# Altium footprint library 英雄云台V1.施佳良.PcbLib: 30 footprints (part 1 of 2)
Each footprint in its own frame and in the unit in brackets; x right, y up, seen from the top. Pads: shape width x height; smd on the part's side, far side on the other; paste and mask are expansions set on the pad; w line width, h text height; cw(c..) or ccw(c..) is an arc to the next point about the centre after c.
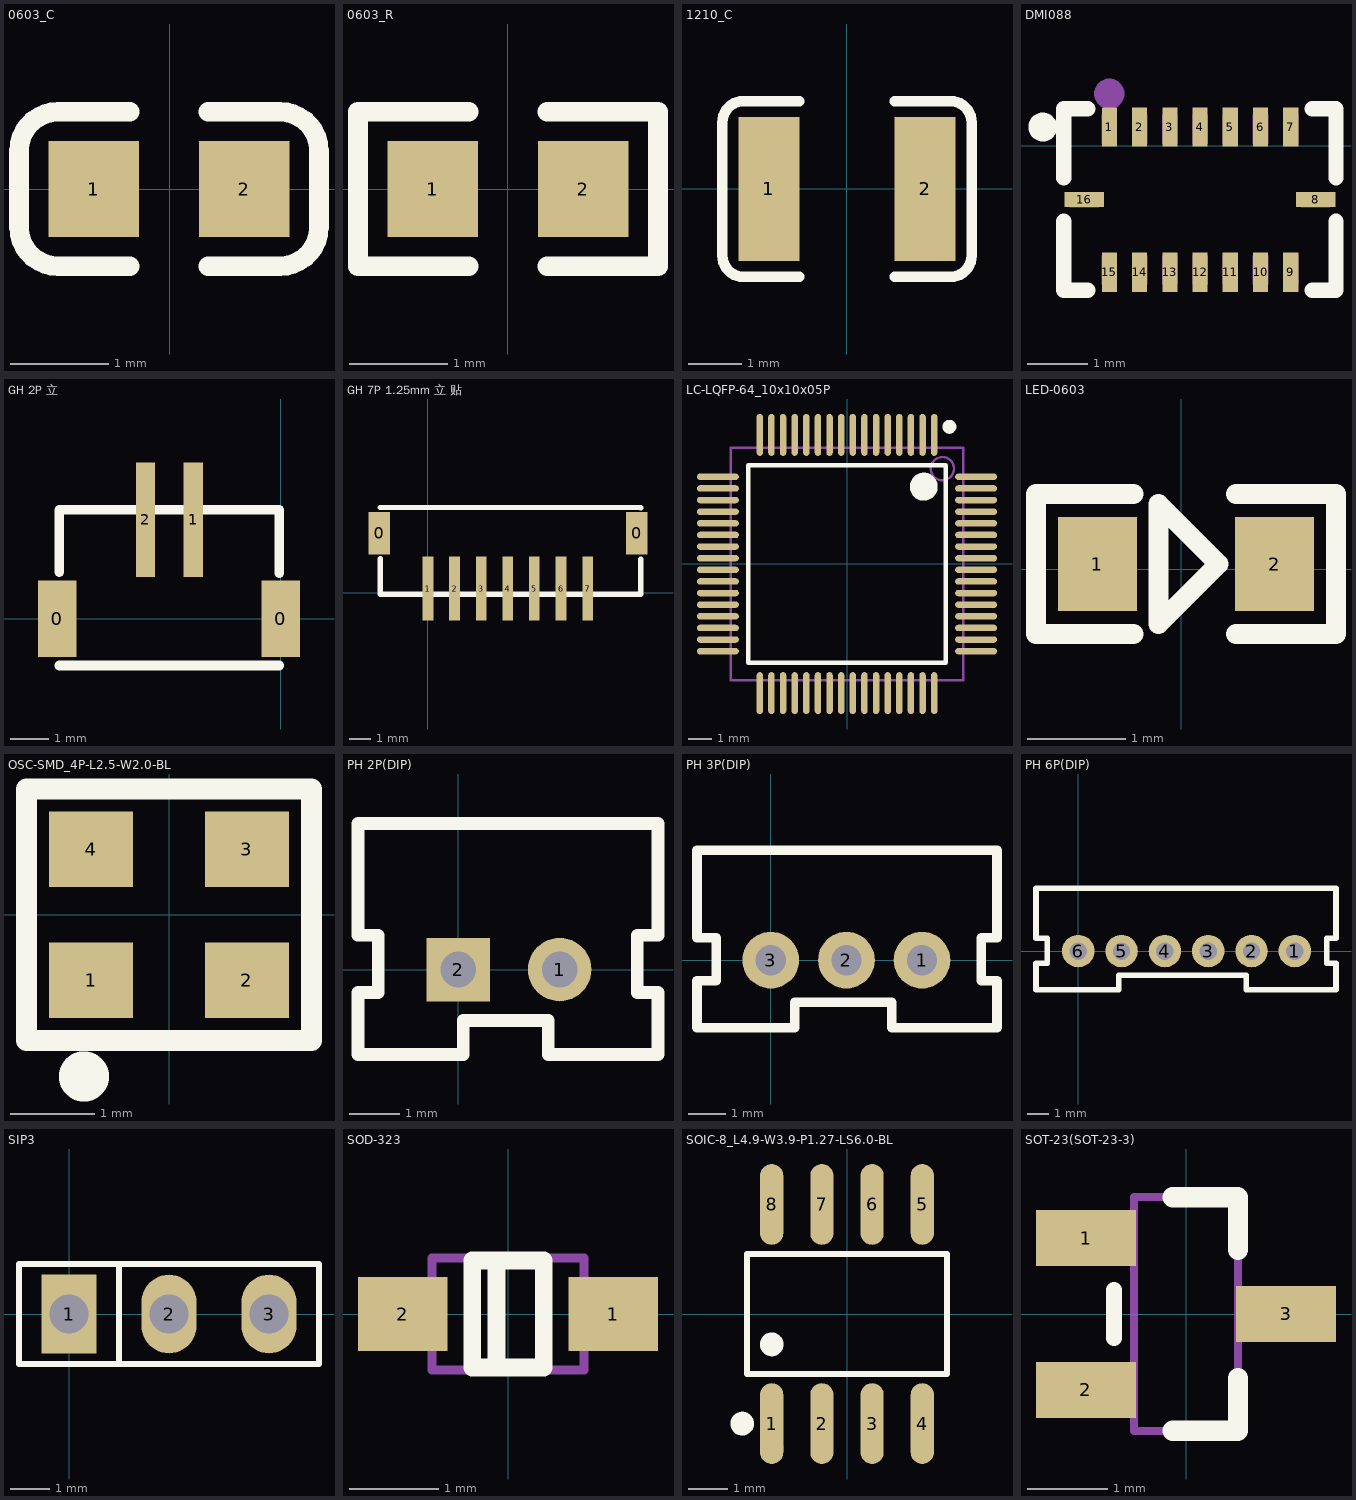
[diagram p0: the footprints below, top view; thin cyan lines are the x and y axes]

## 0603_C [mm]
pads (2):
  rect 0.93x0.98 smd: 1(-0.778,0) 2(0.762,0)
Top Overlay:
  lines w0.2: -0.408,-0.79 -1.143,-0.79 cw(c-1.143,-0.39) -1.543,-0.39 -1.543,0.39 cw(c-1.143,0.39) -1.143,0.79 -0.408,0.79 ; 0.392,-0.79 1.127,-0.79 ccw(c1.127,-0.39) 1.527,-0.39 1.527,0.39 ccw(c1.127,0.39) 1.127,0.79 0.392,0.79
3D body "User Library-0603 SMD Capacitor.STEP": height 0.3, standoff 0, extent -0.808,-0.4 0.792,0.4

## 0603_R [mm]
height 0.6
pads (2):
  rect 0.93x0.98 smd: 1(-0.77,0) 2(0.77,0)
Top Overlay:
  lines w0.2: -0.4,-0.79 -1.535,-0.79 -1.535,0.79 -0.4,0.79 ; 0.4,-0.79 1.535,-0.79 1.535,0.79 0.4,0.79
3D body "User Library-RES_1609-0603.STEP": height 0.56, standoff 0, extent -0.85,-0.4 0.85,0.4

## 1210_C [mm]
pads (2):
  rect 1.16x2.72 smd: 1(-1.475,0) 2(1.475,0)
Top Overlay:
  lines w0.2: -0.9,-1.66 -1.955,-1.66 cw(c-1.955,-1.26) -2.355,-1.26 -2.355,1.26 cw(c-1.955,1.26) -1.955,1.66 -0.9,1.66 ; 0.9,-1.66 1.955,-1.66 ccw(c1.955,-1.26) 2.355,-1.26 2.355,1.26 ccw(c1.955,1.26) 1.955,1.66 0.9,1.66
3D body "User Library-cap_1210_lowprofile.step": height 1.3, standoff 0, extent -1.6,-1.25 1.6,1.25

## DMI088 [mm]
pads (16):
  rect 0.25x0.65 smd: 1(5.36,0.311) 2(5.86,0.311) 3(6.36,0.311) 4(6.86,0.311) 5(7.36,0.311) 6(7.86,0.311) 7(8.36,0.311) 9(8.36,-2.089) 10(7.86,-2.089) 11(7.36,-2.089) 12(6.86,-2.089) 13(6.36,-2.089) 14(5.86,-2.089) 15(5.36,-2.089)
  rect 0.65x0.25 smd: 8(8.773,-0.889) 16(4.943,-0.889)
Top Overlay:
  circle w0.254: c4.258,0.311 r0.112
  lines w0.254: 4.608,-1.245 4.608,-2.389 5.004,-2.389 ; 4.608,-0.533 4.608,0.611 5.004,0.611 ; 8.716,-2.389 9.108,-2.389 9.108,-1.245 ; 8.716,0.611 9.108,0.611 9.108,-0.533
Mechanical 5:
  region: 8.533,-1.014 8.533,-0.764 9.008,-0.764 9.008,-1.014
  region: 4.708,-1.014 4.708,-0.764 5.183,-0.764 5.183,-1.014
  region: 5.235,0.036 5.235,0.511 5.485,0.511 5.485,0.036
  region: 5.735,0.036 5.735,0.511 5.985,0.511 5.985,0.036
  region: 6.235,0.036 6.235,0.511 6.485,0.511 6.485,0.036
  region: 6.735,0.036 6.735,0.511 6.985,0.511 6.985,0.036
  region: 7.235,0.036 7.235,0.511 7.485,0.511 7.485,0.036
  region: 7.735,0.036 7.735,0.511 7.985,0.511 7.985,0.036
  region: 8.235,0.036 8.235,0.511 8.485,0.511 8.485,0.036
  region: 8.235,-2.289 8.235,-1.814 8.485,-1.814 8.485,-2.289
  region: 7.735,-2.289 7.735,-1.814 7.985,-1.814 7.985,-2.289
  region: 7.235,-2.289 7.235,-1.814 7.485,-1.814 7.485,-2.289
  region: 6.735,-2.289 6.735,-1.814 6.985,-1.814 6.985,-2.289
  region: 6.235,-2.289 6.235,-1.814 6.485,-1.814 6.485,-2.289
  region: 5.735,-2.289 5.735,-1.814 5.985,-1.814 5.985,-2.289
  region: 5.235,-2.289 5.235,-1.814 5.485,-1.814 5.485,-2.289
Mechanical 6:
  circle w0.06: c4.608,0.611 r0.03
Mechanical 15:
  circle w0.25: c5.358,0.861 r0.125

## GH 2P 立 [mm] "1.25MM"
pads (4):
  rect 1x2 smd: 0(-5.842,0) 0(0,0)
  rect 0.5x3 smd: 1(-2.286,2.591) 2(-3.536,2.591)
Top Overlay:
  lines w0.254: -5.791,-1.219 -0.041,-1.219 ; -5.791,1.219 -5.791,2.845 -5.779,2.857 -0.041,2.857 -0.041,1.194

## GH 7P 1.25mm 立 贴 [mm] "1.25mm"
pads (9):
  rect 1x2 smd: 0(-2.286,2.794) 0(9.806,2.794)
  rect 0.5x3 smd: 1(0,0.203) 2(1.25,0.203) 3(2.5,0.203) 4(3.75,0.203) 5(5,0.203) 6(6.25,0.203) 7(7.5,0.203)
Top Overlay:
  lines w0.254: -2.245,1.6 -2.245,-0.063 10,-0.063 10,1.575 ; -2.245,4.013 10,4

## LC-LQFP-64_10x10x05P [mm] "LC-LQFP-64_10x10x05P"
pads (64):
  oval 0.28x1.8 smd mask+0.051: 1(3.75,5.55) 2(3.25,5.55) 3(2.75,5.55) 4(2.25,5.55) 5(1.75,5.55) 6(1.25,5.55) 7(0.75,5.55) 8(0.25,5.55) 9(-0.25,5.55) 10(-0.75,5.55) 11(-1.25,5.55) 12(-1.75,5.55) 13(-2.25,5.55) 14(-2.75,5.55) 15(-3.25,5.55) 16(-3.75,5.55) 33(-3.75,-5.55) 34(-3.25,-5.55) 35(-2.75,-5.55) 36(-2.25,-5.55) 37(-1.75,-5.55) 38(-1.25,-5.55) 39(-0.75,-5.55) 40(-0.25,-5.55) 41(0.25,-5.55) 42(0.75,-5.55) 43(1.25,-5.55) 44(1.75,-5.55) 45(2.25,-5.55) 46(2.75,-5.55) 47(3.25,-5.55) 48(3.75,-5.55)
  oval 1.8x0.28 smd mask+0.051: 17(-5.55,3.75) 18(-5.55,3.25) 19(-5.55,2.75) 20(-5.55,2.25) 21(-5.55,1.75) 22(-5.55,1.25) 23(-5.55,0.75) 24(-5.55,0.25) 25(-5.55,-0.25) 26(-5.55,-0.75) 27(-5.55,-1.25) 28(-5.55,-1.75) 29(-5.55,-2.25) 30(-5.55,-2.75) 31(-5.55,-3.25) 32(-5.55,-3.75) 49(5.55,-3.75) 50(5.55,-3.25) 51(5.55,-2.75) 52(5.55,-2.25) 53(5.55,-1.75) 54(5.55,-1.25) 55(5.55,-0.75) 56(5.55,-0.25) 57(5.55,0.25) 58(5.55,0.75) 59(5.55,1.25) 60(5.55,1.75) 61(5.55,2.25) 62(5.55,2.75) 63(5.55,3.25) 64(5.55,3.75)
Top Overlay:
  circle w0.3: c4.4,5.9 r0.15
  circle w0.6: c3.3,3.325 r0.3
  lines w0.2: -4.25,-4.25 4.25,-4.25 4.25,4.25 -4.25,4.25 -4.25,-4.25
Mechanical 13:
  circle w0.1: c4.1,4.1 r0.5
  lines w0.1: -5,-5 5,-5 5,5 -5,5 -5,-5

## LED-0603 [mm]
pads (2):
  rect 0.8x0.95 smd: 1(-0.849,0.051) 2(0.951,0.051)
Top Overlay:
  lines w0.203: -0.483,-0.66 -1.473,-0.66 -1.473,0.762 -0.483,0.762 ; 0.559,-0.66 1.575,-0.66 1.575,0.762 0.559,0.762 ; -0.229,-0.559 0.381,0.051 -0.229,0.66 -0.229,-0.559
3D body "RED0603.STEP": height 0.8, standoff 0, extent -0.749,-0.343 0.851,0.457

## OSC-SMD_4P-L2.5-W2.0-BL [mm]
pads (4):
  rect 1x0.9 smd: 1(-0.93,-0.78) 2(0.93,-0.78) 3(0.93,0.78) 4(-0.93,0.78)
Top Overlay:
  lines w0.254: -1.7,-1.5 -1.7,1.5 1.7,1.5 1.7,-1.5 -1.7,-1.5
  lines w0.3: -1.016,-1.778 ccw(c-1.015,-1.928) -1.013,-1.778

## PH 2P(DIP) [mil]
pads (2):
  round 50 hole 28: 1(80,0)
  rect 50x50 hole 28: 2(0,0)
Top Overlay:
  lines w10: -78.8,-66.93 4,-66.93 4,-40.19 71,-40.19 71,-66.93 157.42,-66.93 157.42,-18.06 141,-18.06 141,26.94 157.42,26.94 157.42,115 -78.8,115 -78.8,26.94 -62.82,26.94 -62.82,-18.06 -78.8,-18.06 -78.8,-66.93
3D body "PH2.step": height 236.22, standoff -133.86, extent -76.13,-65.57 156.15,111.59

## PH 3P(DIP) [mm]
pads (3):
  round 1.5 hole 0.8: 1(4,0) 2(2,0) 3(0,0)
Top Overlay:
  lines w0.254: -1.952,-1.791 -1.952,-0.55 -1.444,-0.55 -1.444,0.593 -1.952,0.593 -1.952,2.909 5.983,2.909 5.983,0.593 5.566,0.593 5.566,-0.55 5.983,-0.55 5.983,-1.791 3.2,-1.791 3.2,-1.112 0.635,-1.112 0.635,-1.791 -1.952,-1.791
3D body "PH3.step": height 6, standoff -3.4, extent -1.943,-1.681 5.957,2.819

## PH 6P(DIP) [mm]
pads (6):
  round 1.5 hole 0.8: 1(10,0) 2(8,0) 3(6,0) 4(4,0) 5(2,0) 6(0,0)
Top Overlay:
  lines w0.254: -1.952,-1.791 -1.952,-0.55 -1.444,-0.55 -1.444,0.593 -1.952,0.593 -1.952,2.909 11.902,2.909 11.902,0.593 11.485,0.593 11.485,-0.55 11.902,-0.55 11.902,-1.791 7.751,-1.791 7.751,-1.112 3.509,-1.112 1.858,-1.112 1.858,-1.791 -1.952,-1.791
3D body "PH6.step": height 6, standoff -3, extent -1.946,-1.702 11.954,2.798

## SIP3 [mm]
pads (3):
  rect 1.4x2 hole 1: 1(0,0)
  oval 1.4x2 hole 1: 2(2.54,0) 3(5.08,0)
Top Overlay:
  lines w0.15: 1.27,-1.27 1.27,1.27 ; -1.27,-1.27 6.35,-1.27 6.35,1.27 -1.27,1.27 -1.27,-1.27
3D body "User Library-CON-072.step": height 16.31, standoff -2.5, extent -1.21,-1.25 6.29,1.25

## SOD-323 [mm]
pads (2):
  rect 1x0.83 smd: 1(1.18,0) 2(-1.18,0)
Top Overlay:
  lines w0.2: -0.13,-0.6 -0.13,0.6 ; -0.4,-0.6 0.4,-0.6 0.4,0.6 -0.4,0.6 -0.4,-0.6
Mechanical 13:
  lines w0.1: -0.85,-0.625 0.85,-0.625 0.85,0.625 -0.85,0.625 -0.85,-0.625
3D body "SOD323.STEP": height 1.1, standoff 0, extent -1.35,-0.625 1.35,0.625

## SOIC-8_L4.9-W3.9-P1.27-LS6.0-BL [mm]
pads (8):
  oval 0.588x2.045 smd: 1(-1.905,-2.773) 2(-0.635,-2.773) 3(0.635,-2.773) 4(1.905,-2.773) 5(1.905,2.773) 6(0.635,2.773) 7(-0.635,2.773) 8(-1.905,2.773)
Top Overlay:
  circle w0.3: c-1.905,-0.769 r0.15
  circle w0.3: c-2.652,-2.772 r0.15
  lines w0.152: -2.526,-1.521 -2.526,1.521 2.526,1.521 2.526,-1.521 -2.526,-1.521
Mechanical 15:
  circle w0.3: c-1.905,-3.4 r0.15

## SOT-23(SOT-23-3) [mm]
pads (3):
  rect 1.25x0.7 smd: 1(-1.25,0.95) 2(-1.25,-0.95) 3(1.25,0)
Top Overlay:
  lines w0.2: -0.9,-0.3 -0.9,0.3
  lines w0.254: -0.165,-1.46 0.65,-1.46 ; -0.165,1.46 0.65,1.46 0.65,0.8 ; 0.65,-1.46 0.65,-0.8 ; 0.65,-1.46 0.65,-0.8 ; 0.65,-1.46 0.65,-0.8
Mechanical 13:
  lines w0.1: -0.65,-1.46 -0.65,1.46 ; -0.65,-1.46 0.65,-1.46 ; -0.65,-1.46 0.65,-1.46 ; -0.65,-1.46 -0.65,1.46 ; -0.65,-1.46 0.65,-1.46 ; -0.65,-1.46 -0.65,1.46 ; -0.65,1.46 0.65,1.46 ; -0.65,1.46 0.65,1.46 ; -0.65,1.46 0.65,1.46 ; 0.65,-1.46 0.65,1.46 ; 0.65,-1.46 0.65,1.46 ; 0.65,-1.46 0.65,1.46
3D body "SOT-23.step": height 1.3, standoff 0, extent -1.5,-1.5 1.5,1.5